# EAGLE library part 78B08T (library switches)
Switch DIP OFF ON SPST 8 Raised Slide 0.15A 30VDC PC Pins 2000Cycles/SwitchCycles 2.54mm Thru-Hole Tube Source: Datasheet <https://componentsearchengine.com/Datasheets/1/78B08T.pdf>
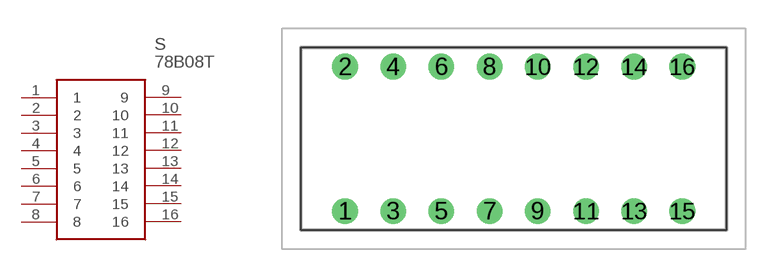
[diagram p2: symbol with the pads of 78B08T; footprint 78B08T]

Designator prefix S

## 78B08T (DESCRIPTION: Switch DIP OFF ON SPST 8 Raised Slide 0.15A 30VDC PC Pins 2000Cycles/SwitchCycles 2.54mm Thru-Hole Tube; HEIGHT: 7.49mm; MANUFACTURER_NAME: Grayhill; MANUFACTURER_PART_NUMBER: 78B08T; MOUSER_PART_NUMBER: 706-78B08T; MOUSER_PRICE-STOCK: https://www.mouser.com/Search/Refine.aspx?Keyword=706-78B08T)  [78B08T]
1  1
2  2
3  3
4  4
5  5
6  6
7  7
8  8
9  9
10  10
11  11
12  12
13  13
14  14
15  15
16  16

## Footprint 78B08T (pad centres in mm)
78B08T-1
drill 0.83 pad 1.349: 1 -8.89,-3.81; 2 -8.89,3.81; 3 -6.35,-3.81; 4 -6.35,3.81; 5 -3.81,-3.81; 6 -3.81,3.81; 7 -1.27,-3.81; 8 -1.27,3.81; 9 1.27,-3.81; 10 1.27,3.81; 11 3.81,-3.81; 12 3.81,3.81; 13 6.35,-3.81; 14 6.35,3.81; 15 8.89,-3.81; 16 8.89,3.81